# EAGLE library part AS179-92LF (library SparkFun-RF)
SKYWORKS SOLUTIONS - AS179-92LF - IC, SWITCH, RF, SPDT, 0.02-3.0GHZ Source: Datasheet <http://www.skyworksinc.com/uploads/documents/AS179_92LF_200176H.pdf>
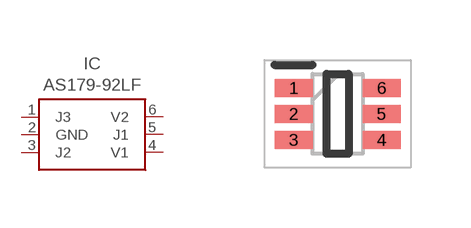
[diagram p42: symbol with the pads of SOT65P220X100-6N; footprint SOT65P220X100-6N]

Designator prefix IC

## AS179-92LF (PROD_ID: IC-15047)  [SOT65P220X100-6N]
1  J3
2  GND  pwr
3  J2
4  V1  pwr
5  J1
6  V2  pwr

## Footprint SOT65P220X100-6N (pad centres in mm)
AS179-92LF
smd 0.95 x 0.45: 1 -1.1,0.65; 2 -1.1,0; 3 -1.1,-0.65; 4 1.1,-0.65; 5 1.1,0; 6 1.1,0.65